# EAGLE library part IMM-NRF52832 (library IMM-NRF5x)
IMM-NRF52832 Cortex-M4F Ant & Bluetooth LE Module Nodic nRF52832 based
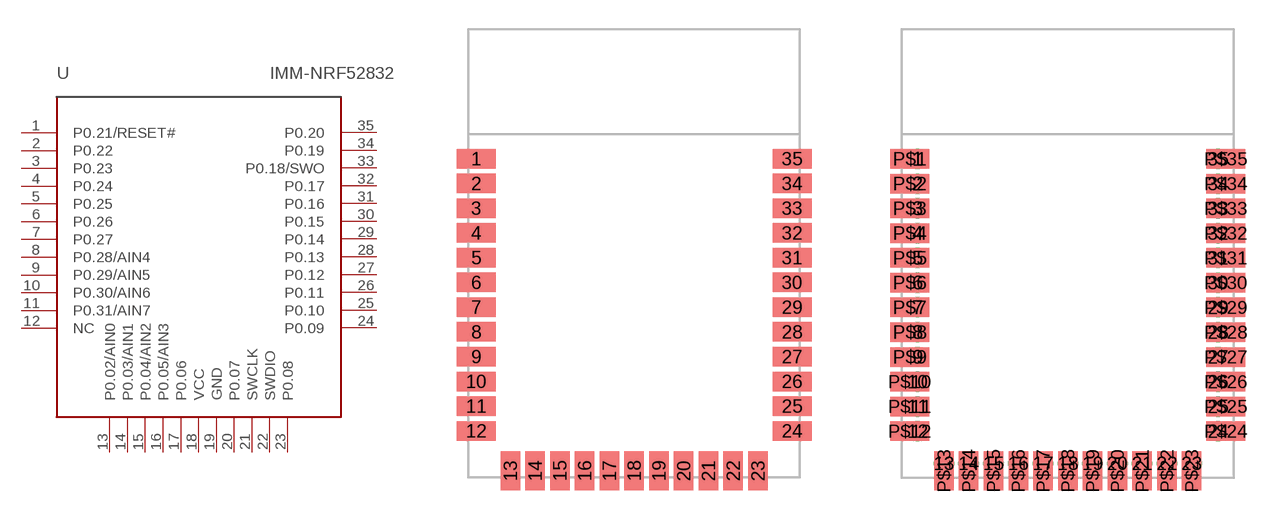
[diagram p0: symbol with the pads of IMM-NRF5X; footprints IMM-NRF5X, IMM-NRF5X_MIX]

Designator prefix -

## IMM-NRF52832  [IMM-NRF5X]
1  P0.21/RESET#
2  P0.22
3  P0.23
4  P0.24
5  P0.25
6  P0.26
7  P0.27
8  P0.28/AIN4
9  P0.29/AIN5
10  P0.30/AIN6
11  P0.31/AIN7
12  NC  nc
13  P0.02/AIN0
14  P0.03/AIN1
15  P0.04/AIN2
16  P0.05/AIN3
17  P0.06
18  VCC  pwr
19  GND  pas
20  P0.07
21  SWCLK  out
22  SWDIO
23  P0.08
24  P0.09
25  P0.10
26  P0.11
27  P0.12
28  P0.13
29  P0.14
30  P0.15
31  P0.16
32  P0.17
33  P0.18/SWO
34  P0.19
35  P0.20

## IMM-NRF52832MIX  [IMM-NRF5X_MIX]
1  P0.21/RESET#
2  P0.22
3  P0.23
4  P0.24
5  P0.25
6  P0.26
7  P0.27
8  P0.28/AIN4
9  P0.29/AIN5
10  P0.30/AIN6
11  P0.31/AIN7
12  NC  nc
13  P0.02/AIN0
14  P0.03/AIN1
15  P0.04/AIN2
16  P0.05/AIN3
17  P0.06
18  VCC  pwr
19  GND  pas
20  P0.07
21  SWCLK  out
22  SWDIO
23  P0.08
24  P0.09
25  P0.10
26  P0.11
27  P0.12
28  P0.13
29  P0.14
30  P0.15
31  P0.16
32  P0.17
33  P0.18/SWO
34  P0.19
35  P0.20
P$1  P0.21/RESET#
P$2  P0.22
P$3  P0.23
P$4  P0.24
P$5  P0.25
P$6  P0.26
P$7  P0.27
P$8  P0.28/AIN4
P$9  P0.29/AIN5
P$10  P0.30/AIN6
P$11  P0.31/AIN7
P$12  NC  nc
P$13  P0.02/AIN0
P$14  P0.03/AIN1
P$15  P0.04/AIN2
P$16  P0.05/AIN3
P$17  P0.06
P$18  VCC  pwr
P$19  GND  pas
P$20  P0.07
P$21  SWCLK  out
P$22  SWDIO
P$23  P0.08
P$24  P0.09
P$25  P0.10
P$26  P0.11
P$27  P0.12
P$28  P0.13
P$29  P0.14
P$30  P0.15
P$31  P0.16
P$32  P0.17
P$33  P0.18/SWO
P$34  P0.19
P$35  P0.20

## IMM-NRF52832THROU  [IMM-NRF5X_THROU]
Pads as for IMM-NRF5X

## Footprint IMM-NRF5X (pad centres in mm)
smd 2 x 1: 1 -8.1,6.35; 2 -8.1,5.08; 3 -8.1,3.81; 4 -8.1,2.54; 5 -8.1,1.27; 6 -8.1,0; 7 -8.1,-1.27; 8 -8.1,-2.54; 9 -8.1,-3.81; 10 -8.1,-5.08; 11 -8.1,-6.35; 12 -8.1,-7.62; 24 8.1,-7.62; 25 8.1,-6.35; 26 8.1,-5.08; 27 8.1,-3.81; 28 8.1,-2.54; 29 8.1,-1.27; 30 8.1,0; 31 8.1,1.27; 32 8.1,2.54; 33 8.1,3.81; 34 8.1,5.08; 35 8.1,6.35
smd 1 x 2: 13 -6.35,-9.67; 14 -5.08,-9.67; 15 -3.81,-9.67; 16 -2.54,-9.67; 17 -1.27,-9.67; 18 0,-9.67; 19 1.27,-9.67; 20 2.54,-9.67; 21 3.81,-9.67; 22 5.08,-9.67; 23 6.35,-9.67

## Footprint IMM-NRF5X_MIX (pad centres in mm)
drill 0.54: 1 -7.7,6.35; 2 -7.7,5.08; 3 -7.7,3.81; 4 -7.7,2.54; 5 -7.7,1.27; 6 -7.7,0; 7 -7.7,-1.27; 8 -7.7,-2.54; 9 -7.7,-3.81; 10 -7.7,-5.08; 11 -7.7,-6.35; 12 -7.7,-7.62; 13 -6.35,-9.27; 14 -5.08,-9.27; 15 -3.81,-9.27; 16 -2.54,-9.27; 17 -1.27,-9.27; 18 0,-9.27; 19 1.27,-9.27; 20 2.54,-9.27; 21 3.81,-9.27; 22 5.08,-9.27; 23 6.35,-9.27; 24 7.7,-7.62; 25 7.7,-6.35; 26 7.7,-5.08; 27 7.7,-3.81; 28 7.7,-2.54; 29 7.7,-1.27; 30 7.7,0; 31 7.7,1.27; 32 7.7,2.54; 33 7.7,3.81; 34 7.7,5.08; 35 7.7,6.35
smd 2 x 1: P$1 -8.1,6.35; P$2 -8.1,5.08; P$3 -8.1,3.81; P$4 -8.1,2.54; P$5 -8.1,1.27; P$6 -8.1,0; P$7 -8.1,-1.27; P$8 -8.1,-2.54; P$9 -8.1,-3.81; P$10 -8.1,-5.08; P$11 -8.1,-6.35; P$12 -8.1,-7.62; P$24 8.1,-7.62; P$25 8.1,-6.35; P$26 8.1,-5.08; P$27 8.1,-3.81; P$28 8.1,-2.54; P$29 8.1,-1.27; P$30 8.1,0; P$31 8.1,1.27; P$32 8.1,2.54; P$33 8.1,3.81; P$34 8.1,5.08; P$35 8.1,6.35
smd 1 x 2: P$13 -6.35,-9.65; P$14 -5.08,-9.65; P$15 -3.81,-9.65; P$16 -2.54,-9.65; P$17 -1.27,-9.65; P$18 0,-9.65; P$19 1.27,-9.65; P$20 2.54,-9.65; P$21 3.81,-9.65; P$22 5.08,-9.65; P$23 6.35,-9.65

## Footprint IMM-NRF5X_THROU (pad centres in mm)
drill 0.7: 1 -7.7,6.35; 2 -7.7,5.08; 3 -7.7,3.81; 4 -7.7,2.54; 5 -7.7,1.27; 6 -7.7,0; 7 -7.7,-1.27; 8 -7.7,-2.54; 9 -7.7,-3.81; 10 -7.7,-5.08; 11 -7.7,-6.35; 12 -7.7,-7.62; 13 -6.35,-9.27; 14 -5.08,-9.27; 15 -3.81,-9.27; 16 -2.54,-9.27; 17 -1.27,-9.27; 18 0,-9.27; 19 1.27,-9.27; 20 2.54,-9.27; 21 3.81,-9.27; 22 5.08,-9.27; 23 6.35,-9.27; 24 7.7,-7.62; 25 7.7,-6.35; 26 7.7,-5.08; 27 7.7,-3.81; 28 7.7,-2.54; 29 7.7,-1.27; 30 7.7,0; 31 7.7,1.27; 32 7.7,2.54; 33 7.7,3.81; 34 7.7,5.08; 35 7.7,6.35